# Altium footprint library 2174507-2.PcbLib: 1 footprints
Each footprint in its own frame and in the unit in brackets; x right, y up, seen from the top. Pads: shape width x height; smd on the part's side, far side on the other; paste and mask are expansions set on the pad; w line width, h text height; cw(c..) or ccw(c..) is an arc to the next point about the centre after c.
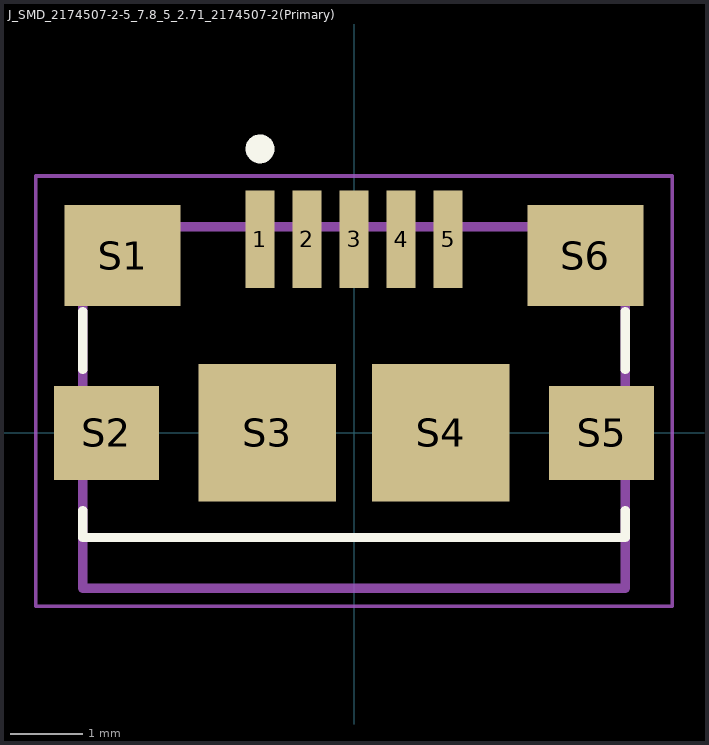
[diagram p0: the footprint, top view; thin cyan lines are the x and y axes]

## J_SMD_2174507-2-5_7.8_5_2.71_2174507-2(Primary) [mm]
pads (11):
  rect 0.4x1.35 smd: 1(-1.3,2.675) 2(-0.65,2.675) 3(0,2.675) 4(0.65,2.675) 5(1.3,2.675)
  rect 1.6x1.4 smd: S1(-3.2,2.45) S6(3.2,2.45)
  rect 1.45x1.3 smd: S2(-3.425,0) S5(3.425,0)
  rect 1.9x1.9 smd: S3(-1.2,0) S4(1.2,0)
Top Overlay:
  circle w0.2: c-1.3,3.925 r0.1
  lines w0.127: -3.75,-1.075 -3.75,-1.45 3.75,-1.45 3.75,-1.075 ; -3.75,0.875 -3.75,1.675 ; 3.75,0.875 3.75,1.675
Mechanical 1:
  lines w0.127: -3.75,-1.45 -3.75,-2.15 3.75,-2.15 3.75,-1.45 ; -3.75,-1.45 -3.75,2.85 3.75,2.85 3.75,-1.45 ; -3.75,-1.45 3.75,-1.45
  text "PCB EDGE" at -0.905,-1.619 h1.88
Mechanical 4:
  lines w0.05: -4.4,-2.4 4.4,-2.4 4.4,3.55 -4.4,3.55 -4.4,-2.4